# EAGLE library part 74*164 (library 74xx-eu)
8-bit parallel out SHIFT REGISTER
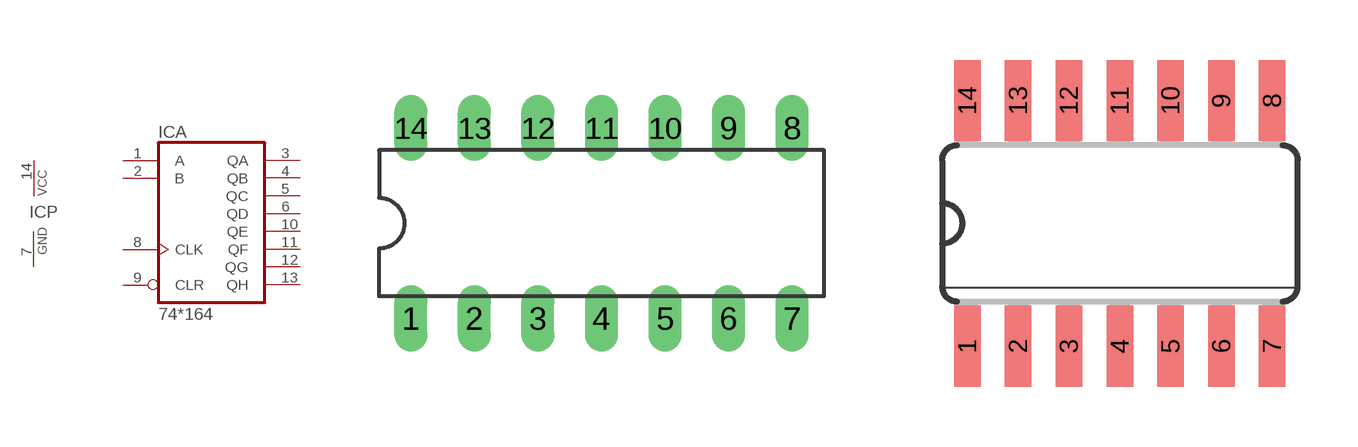
[diagram p50: symbol with the pads of DIL14; footprints DIL14, SO14]

Designator prefix IC; gates A=74164 P=PWRN

## 74164N, 74AC164N, 74ACT164N, 74HC164N, 74HCT164N, 74LS164N  [DIL14]
1  A:A  in
2  A:B  in
3  A:QA  out
4  A:QB  out
5  A:QC  out
6  A:QD  out
7  P:GND  pwr
8  A:CLK  in
9  A:CLR  in
10  A:QE  out
11  A:QF  out
12  A:QG  out
13  A:QH  out
14  P:VCC  pwr

## 74164D, 74AC164D, 74ACT164D, 74HC164D, 74HCT164D, 74LS164D  [SO14]
Pads as for DIL14

## 74164FK, 74AC164FK, 74ACT164FK, 74HC164FK, 74HCT164FK, 74LS164FK  [LCC20]
2  A:A  in
3  A:B  in
4  A:QA  out
6  A:QB  out
8  A:QC  out
9  A:QD  out
10  P:GND  pwr
12  A:CLK  in
13  A:CLR  in
14  A:QE  out
16  A:QF  out
18  A:QG  out
19  A:QH  out
20  P:VCC  pwr

## Footprint DIL14 (pad centres in mm)
Dual In Line Package
drill 0.813 long: 1 -7.62,-3.81; 2 -5.08,-3.81; 3 -2.54,-3.81; 4 0,-3.81; 5 2.54,-3.81; 6 5.08,-3.81; 7 7.62,-3.81; 8 7.62,3.81; 9 5.08,3.81; 10 2.54,3.81; 11 0,3.81; 12 -2.54,3.81; 13 -5.08,3.81; 14 -7.62,3.81

## Footprint SO14 (pad centres in mm)
Small Outline package 150 mil
smd 0.66 x 2.032: 1 -3.81,-3.073; 2 -2.54,-3.073; 3 -1.27,-3.073; 4 0,-3.073; 5 1.27,-3.073; 6 2.54,-3.073; 7 3.81,-3.073; 8 3.81,3.073; 9 2.54,3.073; 10 1.27,3.073; 11 0,3.073; 12 -1.27,3.073; 13 -2.54,3.073; 14 -3.81,3.073

## Footprint LCC20 (pad centres in mm)
Leadless Chip Carrier Ceramic Package
smd 0.8 x 3.4: 1 0,3.8
smd 0.8 x 2: 2 -1.27,4.5; 3 -2.54,4.5; 9 -2.54,-4.5; 10 -1.27,-4.5; 11 0,-4.5; 12 1.27,-4.5; 13 2.54,-4.5; 19 2.54,4.5; 20 1.27,4.5
smd 2 x 0.8: 4 -4.5,2.54; 5 -4.5,1.27; 6 -4.5,0; 7 -4.5,-1.27; 8 -4.5,-2.54; 14 4.5,-2.54; 15 4.5,-1.27; 16 4.5,0; 17 4.5,1.27; 18 4.5,2.54